# Altium schematic symbol library mos021.SchLib: 1 symbol
Pins are listed as number, name and electrical type; pins without a type are passive.

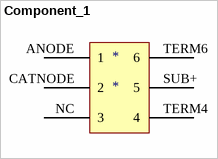
[diagram p0: symbol Component_1]

## Component_1
designator *
pins: ANODE 1 "faf", CATNODE 2, NC 3, SUB+ 5, TERM4 4, TERM6 6